# Altium footprint library 0430450811.PcbLib: 1 footprints
Each footprint in its own frame and in the unit in brackets; x right, y up, seen from the top. Pads: shape width x height; smd on the part's side, far side on the other; paste and mask are expansions set on the pad; w line width, h text height; cw(c..) or ccw(c..) is an arc to the next point about the centre after c.
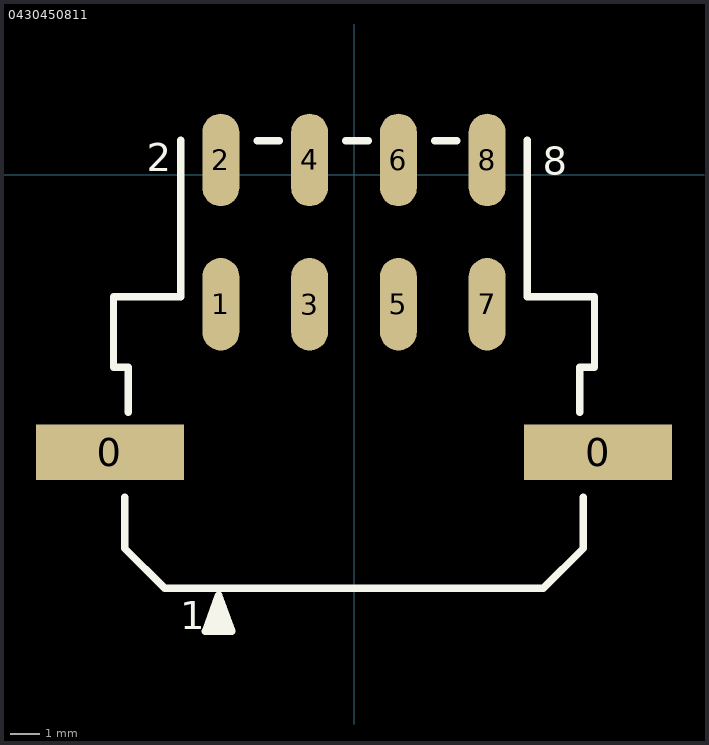
[diagram p0: the footprint, top view; thin cyan lines are the x and y axes]

## 0430450811 [mil]
pads (10):
  rect 200x75 smd: 0(-330,-375) 0(330,-375)
  oval 50x125 smd: 1(-180,-175) 2(-180,20) 3(-60,-175) 4(-60,20) 5(60,-175) 6(60,20) 7(180,-175) 8(180,20)
Top Overlay:
  rectangle: -197,-617 -165,-606
  rectangle: -192,-621 -174,-581
  lines w10: -310,-436 -310,-505 -256,-559 ; -305,-321 -305,-260 -325,-260 -325,-165 -234,-165 -234,47 ; -255,-559 256,-559 310,-505 310,-436 ; -166,-617 -201,-617 -183,-568 -165,-617 ; -131,46 -101,46 ; -11,46 19,46 ; 109,46 139,46 ; 234,47 234,-165 325,-165 325,-260 305,-260 305,-321
  text "1" at -235,-614 h38
  text "2" at -280,5 h38
  text "8" at 255,0 h38
3D body: height 345.35, standoff 0.08, extent -386.81,-556.3 386.81,50